# EAGLE library part TLP621-3 (library photocouplers)
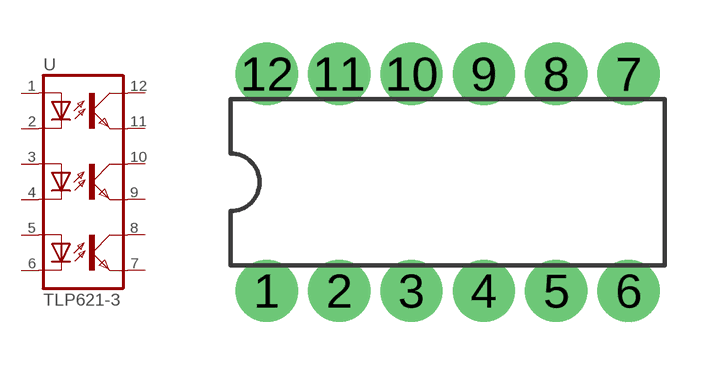
[diagram p1: symbol with the pads of DIP12; footprint DIP12]

Designator prefix -

## TLP621-3"  [DIP12]
1  A  pas
2  C  pas
3  A1  pas
4  C1  pas
5  A2  pas
6  C2  pas
7  EMIT2  pas
8  COL2  pas
9  EMIT1  pas
10  COL1  pas
11  EMIT  pas
12  COL  pas

## Footprint DIP12 (pad centres in mm)
drill 1 pad 2.184: 1 -6.35,-3.81; 2 -3.81,-3.81; 3 -1.27,-3.81; 4 1.27,-3.81; 5 3.81,-3.81; 6 6.35,-3.81; 7 6.35,3.81; 8 3.81,3.81; 9 1.27,3.81; 10 -1.27,3.81; 11 -3.81,3.81; 12 -6.35,3.81